# Altium footprint library ZRE200GE.PcbLib: 1 footprints
Each footprint in its own frame and in the unit in brackets; x right, y up, seen from the top. Pads: shape width x height; smd on the part's side, far side on the other; paste and mask are expansions set on the pad; w line width, h text height; cw(c..) or ccw(c..) is an arc to the next point about the centre after c.
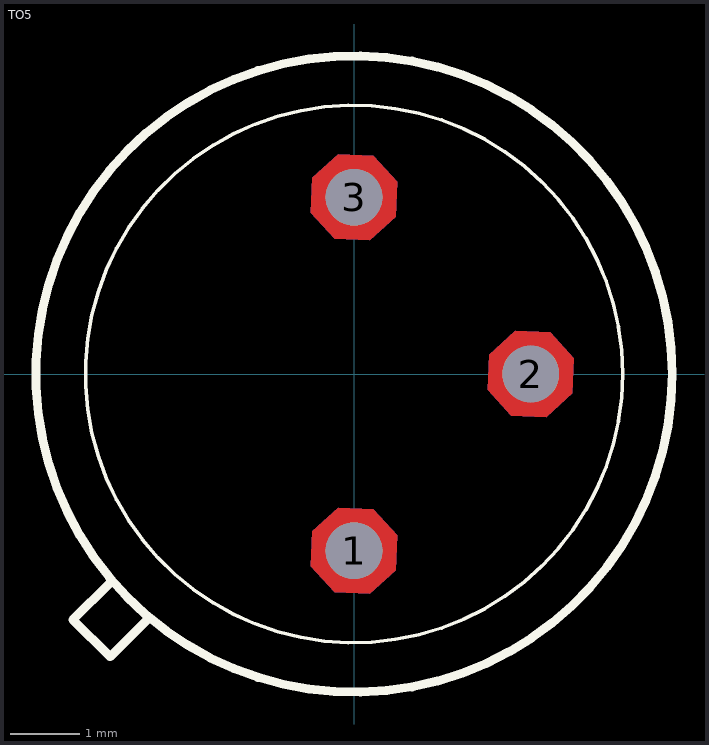
[diagram p0: the footprint, top view; thin cyan lines are the x and y axes]

## TO5 [mil]
pads (3):
  round 32 hole 32: 1(0,-100) 2(100,0) 3(0,100)
Top Layer:
  region: 24.43,108.89 10.99,123.56 -8.89,124.43 -23.56,110.99 -24.43,91.11 -10.99,76.44 8.89,75.57 23.56,89.01
  region: 124.43,8.89 110.99,23.56 91.11,24.43 76.44,10.99 75.57,-8.89 89.01,-23.56 108.89,-24.43 123.56,-10.99
  region: 24.43,-91.11 10.99,-76.44 -8.89,-75.57 -23.56,-89.01 -24.43,-108.89 -10.99,-123.56 8.89,-124.43 23.56,-110.99
Bottom Layer:
  region: 24.43,108.89 10.99,123.56 -8.89,124.43 -23.56,110.99 -24.43,91.11 -10.99,76.44 8.89,75.57 23.56,89.01
  region: 124.43,8.89 110.99,23.56 91.11,24.43 76.44,10.99 75.57,-8.89 89.01,-23.56 108.89,-24.43 123.56,-10.99
  region: 24.43,-91.11 10.99,-76.44 -8.89,-75.57 -23.56,-89.01 -24.43,-108.89 -10.99,-123.56 8.89,-124.43 23.56,-110.99
Top Overlay:
  circle w2: c0,0 r152
  circle w5: c0,0 r180
  lines w5: -138,-118 -159,-139 -138,-160 -117,-139
Multi-Layer:
  region: 24.43,108.89 10.99,123.56 -8.89,124.43 -23.56,110.99 -24.43,91.11 -10.99,76.44 8.89,75.57 23.56,89.01
  region: 124.43,8.89 110.99,23.56 91.11,24.43 76.44,10.99 75.57,-8.89 89.01,-23.56 108.89,-24.43 123.56,-10.99
  region: 24.43,-91.11 10.99,-76.44 -8.89,-75.57 -23.56,-89.01 -24.43,-108.89 -10.99,-123.56 8.89,-124.43 23.56,-110.99
3D body "User Library-PIR_S_Orginal.step": height 185.04, standoff -78.74, extent -179.13,-178.27 179.13,180
3D body "lens.STEP": height 570.87, standoff 0, extent -472.44,-471.57 472.44,473.31